# Altium schematic symbol library IC CPU.SchLib: 10 symbols
Pins are listed as number, name and electrical type; pins without a type are passive.

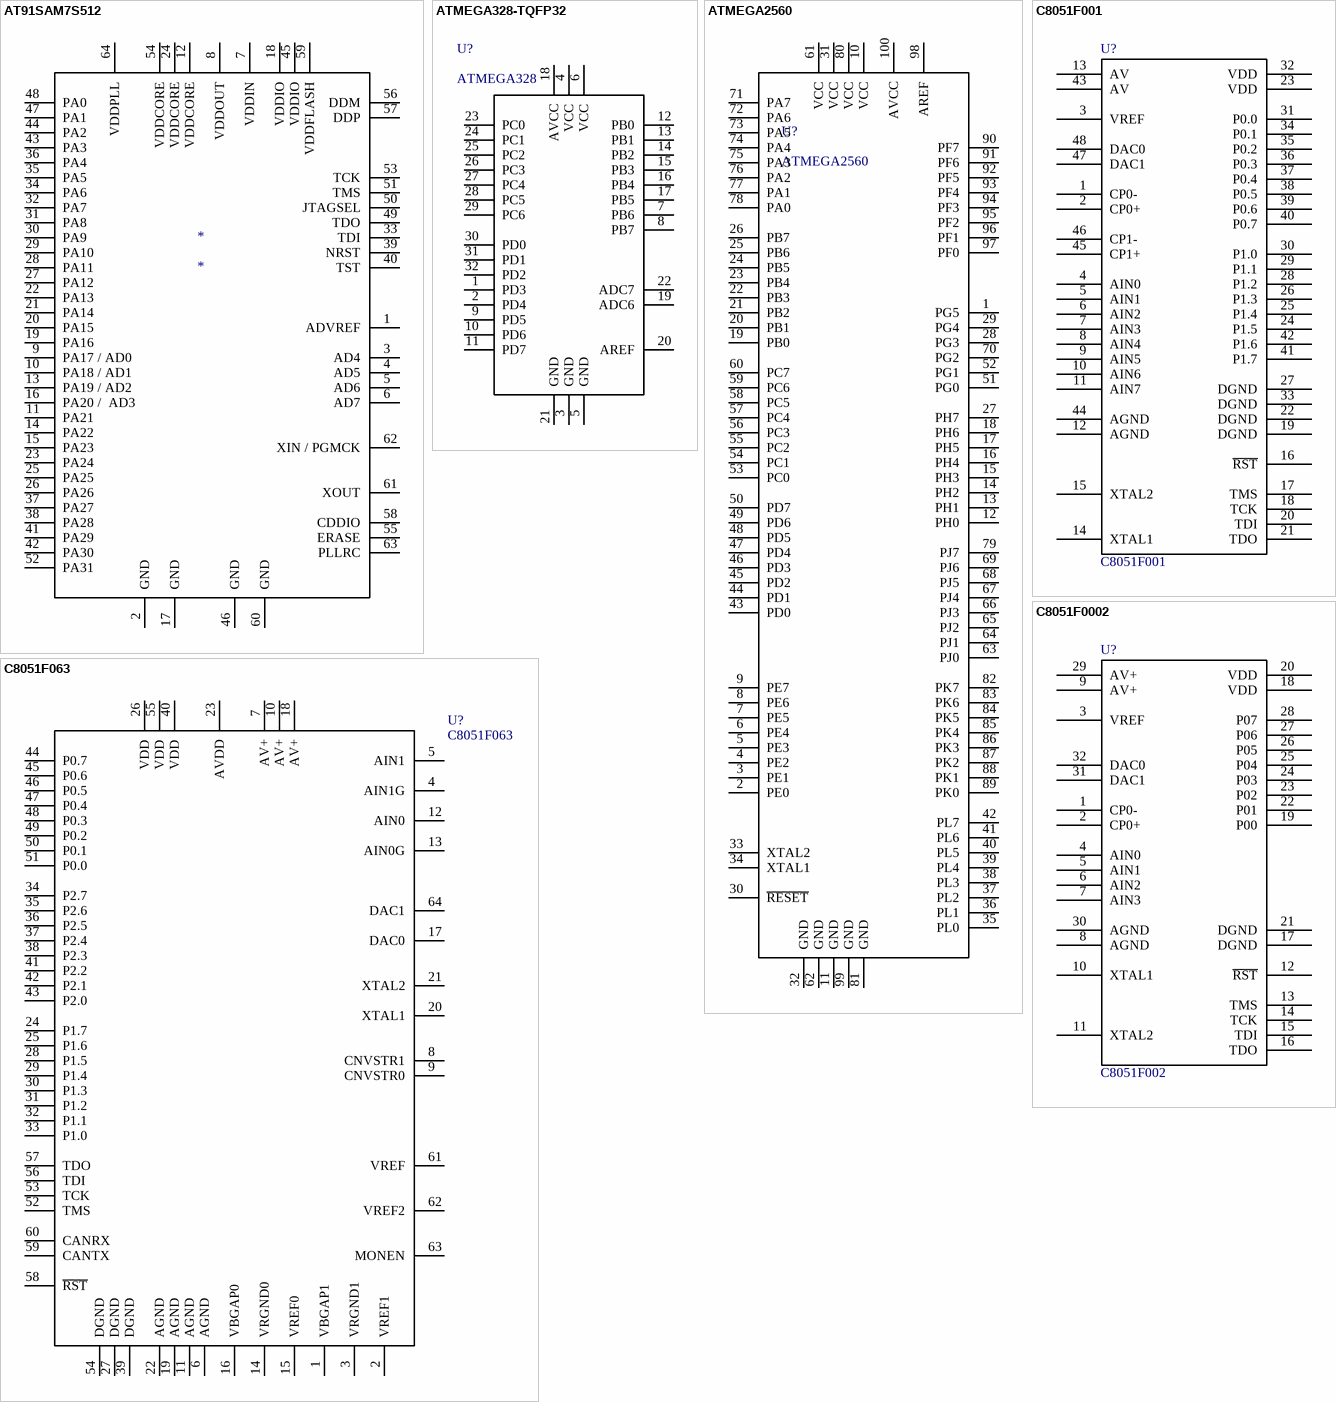
[diagram p0: symbols AT91SAM7S512 to C8051F063]

## AT91SAM7S512
designator *
footprint tqfp64
pins: 1 ADVREF, 2 GND, 3 AD4, 4 AD5, 5 AD6, 6 AD7, 7 VDDIN, 8 VDDOUT, 9 PA17 / AD0, 10 PA18 / AD1, 11 PA21, 12 VDDCORE, 13 PA19 / AD2, 14 PA22, 15 PA23, 16 PA20 /  AD3, 17 GND, 18 VDDIO, 19 PA16, 20 PA15, 21 PA14, 22 PA13, 23 PA24, 24 VDDCORE, 25 PA25, 26 PA26, 27 PA12, 28 PA11, 29 PA10, 30 PA9, 31 PA8, 32 PA7, 33 TDI, 34 PA6, 35 PA5, 36 PA4, 37 PA27, 38 PA28, 39 NRST, 40 TST, 41 PA29, 42 PA30, 43 PA3, 44 PA2, 45 VDDIO, 46 GND, 47 PA1, 48 PA0, 49 TDO, 50 JTAGSEL, 51 TMS, 52 PA31, 53 TCK, 54 VDDCORE, 55 ERASE, 56 DDM, 57 DDP, 58 CDDIO, 59 VDDFLASH, 60 GND, 61 XOUT, 62 XIN / PGMCK, 63 PLLRC, 64 VDDPLL

## ATMEGA328-TQFP32
designator U?, comment ATMEGA328
ATMEGA328 - TQFP; Supplier 1: Digi-Key; Supplier Part Number 1: ATMEGA328-AU-ND
footprint QFP32
pins: 1 PD3, 2 PD4, 3 GND, 4 VCC, 5 GND, 6 VCC, 7 PB6, 8 PB7, 9 PD5, 10 PD6, 11 PD7, 12 PB0, 13 PB1, 14 PB2, 15 PB3, 16 PB4, 17 PB5, 18 AVCC, 19 ADC6, 20 AREF, 21 GND, 22 ADC7, 23 PC0, 24 PC1, 25 PC2, 26 PC3, 27 PC4, 28 PC5, 29 PC6, 30 PD0, 31 PD1, 32 PD2

## ATMEGA2560
designator U?
ATMEL ATMEGA CPU; Supplier 1: Digi-Key; Supplier Part Number 1: ATMEGA2560-16AUR-ND
pins: 1 PG5, 2 PE0, 3 PE1, 4 PE2, 5 PE3, 6 PE4, 7 PE5, 8 PE6, 9 PE7, 10 VCC, 11 GND, 12 PH0, 13 PH1, 14 PH2, 15 PH3, 16 PH4, 17 PH5, 18 PH6, 19 PB0, 20 PB1, 21 PB2, 22 PB3, 23 PB4, 24 PB5, 25 PB6, 26 PB7, 27 PH7, 28 PG3, 29 PG4, 30 ~{RESET}, 31 VCC, 32 GND, 33 XTAL2, 34 XTAL1, 35 PL0, 36 PL1, 37 PL2, 38 PL3, 39 PL4, 40 PL5, 41 PL6, 42 PL7, 43 PD0, 44 PD1, 45 PD2, 46 PD3, 47 PD4, 48 PD5, 49 PD6, 50 PD7, 51 PG0, 52 PG1, 53 PC0, 54 PC1, 55 PC2, 56 PC3, 57 PC4, 58 PC5, 59 PC6, 60 PC7, 61 VCC, 62 GND, 63 PJ0, 64 PJ1, 65 PJ2, 66 PJ3, 67 PJ4, 68 PJ5, 69 PJ6, 70 PG2, 71 PA7, 72 PA6, 73 PA5, 74 PA4, 75 PA3, 76 PA2, 77 PA1, 78 PA0, 79 PJ7, 80 VCC, 81 GND, 82 PK7, 83 PK6, 84 PK5, 85 PK4, 86 PK3, 87 PK2, 88 PK1, 89 PK0, 90 PF7, 91 PF6, 92 PF5, 93 PF4, 94 PF3, 95 PF2, 96 PF1, 97 PF0, 98 AREF, 99 GND, 100 AVCC

## C8051F001
designator U?
8051 BASED MICROCONTROLLER; Manufacturer: Silicon Laboratories  Inc; Manufacturer Part Number: C8051F001-GQR; Connectivity: SMBus (2-Wire/I²C), SPI, UART/USART; Core Size: 8-Bit; Program Memory Size: 32KB (32K x 8); Oscillator Type: Internal; Peripherals: Brown-out Detect/Reset, POR, PWM, Temp Sensor, WDT; Data Converters: A/D 8x12b; D/A 2x12b; Program Memory Type: FLASH; Number of I /O: 16; RAM Size: 256 x 8; Description: IC 8051 MCU 32K FLASH 48TQFP; Voltage - Supply (Vcc/Vdd): 2.7 V ~ 3.6 V; Core Processor: 8051; Speed: 25MHz; Supplier 1: Digi-Key; Supplier Part Number 1: C8051F001-GQR-ND; Packaging: Tape & Reel (TR); Operating Temperature: -40°C ~ 85°C; Supplier Part Number: C8051F001-GQR-ND; Package / Case: 48-TQFP, 48-VQFP; RoHS: RoHS Compliant; Supplier: Digi-Key; Category: Integrated Circuits (ICs); EEPROM Size: -
footprint tqfp48
pins: 1 CP0-, 2 CP0+, 3 VREF, 4 AIN0, 5 AIN1, 6 AIN2, 7 AIN3, 8 AIN4, 9 AIN5, 10 AIN6, 11 AIN7, 12 AGND, 13 AV, 14 XTAL1, 15 XTAL2, 16 ~{RST}, 17 TMS, 18 TCK, 19 DGND, 20 TDI, 21 TDO, 22 DGND, 23 VDD, 24 P1.5, 25 P1.4, 26 P1.3, 27 DGND, 28 P1.2, 29 P1.1, 30 P1.0, 31 P0.0, 32 VDD, 33 DGND, 34 P0.1, 35 P0.2, 36 P0.3, 37 P0.4, 38 P0.5, 39 P0.6, 40 P0.7, 41 P1.7, 42 P1.6, 43 AV, 44 AGND, 45 CP1+, 46 CP1-, 47 DAC1, 48 DAC0

## C8051F0002
designator U?, comment C8051F002
8051 BASED MICROCONTROLLER; Manufacturer Part Number: C8051F002-GQR; Manufacturer: Silicon Laboratories  Inc; Core Processor: 8051; Program Memory Size: 32KB (32K x 8); Data Converters: A/D 4x12b; D/A 2x12b; Voltage - Supply (Vcc/Vdd): 2.7 V ~ 3.6 V; Oscillator Type: Internal; Number of I /O: 8; Speed: 25MHz; Connectivity: SMBus (2-Wire/I²C), SPI, UART/USART; Description: IC 8051 MCU 32K FLASH 32LQFP; Peripherals: Brown-out Detect/Reset, POR, PWM, Temp Sensor, WDT; Program Memory Type: FLASH; Core Size: 8-Bit; RAM Size: 256 x 8; Supplier 1: Digi-Key; Supplier Part Number 1: C8051F002-GQR-ND; RoHS: RoHS Compliant; Packaging: Tape & Reel (TR); Category: Integrated Circuits (ICs); Package / Case: 32-LQFP; EEPROM Size: -; Supplier: Digi-Key; Supplier Part Number: C8051F002-GQR-ND; Operating Temperature: -40°C ~ 85°C
footprint qfp32
pins: 1 CP0-, 2 CP0+, 3 VREF, 4 AIN0, 5 AIN1, 6 AIN2, 7 AIN3, 8 AGND, 9 AV+, 10 XTAL1, 11 XTAL2, 12 ~{RST}, 13 TMS, 14 TCK, 15 TDI, 16 TDO, 17 DGND, 18 VDD, 19 P00, 20 VDD, 21 DGND, 22 P01, 23 P02, 24 P03, 25 P04, 26 P05, 27 P06, 28 P07, 29 AV+, 30 AGND, 31 DAC1, 32 DAC0

## C8051F063
designator U?
8051 BASED MICROCONTROLLER; Manufacturer: Silicon Laboratories  Inc; Manufacturer Part Number: C8051F063R; Data Converters: A/D 2x16b, 8x10b; D/A 2x12b; Program Memory Size: 64KB (64K x 8); Voltage - Supply (Vcc/Vdd): 2.7 V ~ 3.6 V; Speed: 25MHz; Core Size: 8-Bit; Oscillator Type: Internal; RAM Size: 4.25K x 8; Number of I /O: 24; Peripherals: Brown-out Detect/Reset, POR, PWM, Temp Sensor, WDT; Program Memory Type: FLASH; Connectivity: CAN, SMBus (2-Wire/I&sup2:C), SPI, UART/USART; Description: IC 8051 MCU 64K FLASH 64TQFP; Core Processor: 8051; Supplier 1: Digi-Key; Supplier Part Number 1: 336-1075-2-ND; Packaging: Tape & Reel (TR); EEPROM Size: -; Supplier: Digi-Key; Operating Temperature: -40°C ~ 85°C; Package / Case: 64-TQFP, 64-VQFP; RoHS: RoHS non-compliant; Supplier Part Number: 336-1075-2-ND; Category: Integrated Circuits (ICs)
footprint TQFP64
pins: 1 VBGAP1, 2 VREF1, 3 VRGND1, 4 AIN1G, 5 AIN1, 6 AGND, 7 AV+, 8 CNVSTR1, 9 CNVSTR0, 10 AV+, 11 AGND, 12 AIN0, 13 AIN0G, 14 VRGND0, 15 VREF0, 16 VBGAP0, 17 DAC0, 18 AV+, 19 AGND, 20 XTAL1, 21 XTAL2, 22 AGND, 23 AVDD, 24 P1.7, 25 P1.6, 26 VDD, 27 DGND, 28 P1.5, 29 P1.4, 30 P1.3, 31 P1.2, 32 P1.1, 33 P1.0, 34 P2.7, 35 P2.6, 36 P2.5, 37 P2.4, 38 P2.3, 39 DGND, 40 VDD, 41 P2.2, 42 P2.1, 43 P2.0, 44 P0.7, 45 P0.6, 46 P0.5, 47 P0.4, 48 P0.3, 49 P0.2, 50 P0.1, 51 P0.0, 52 TMS, 53 TCK, 54 DGND, 55 VDD, 56 TDI, 57 TDO, 58 ~{RST}, 59 CANTX, 60 CANRX, 61 VREF, 62 VREF2, 63 MONEN, 64 DAC1

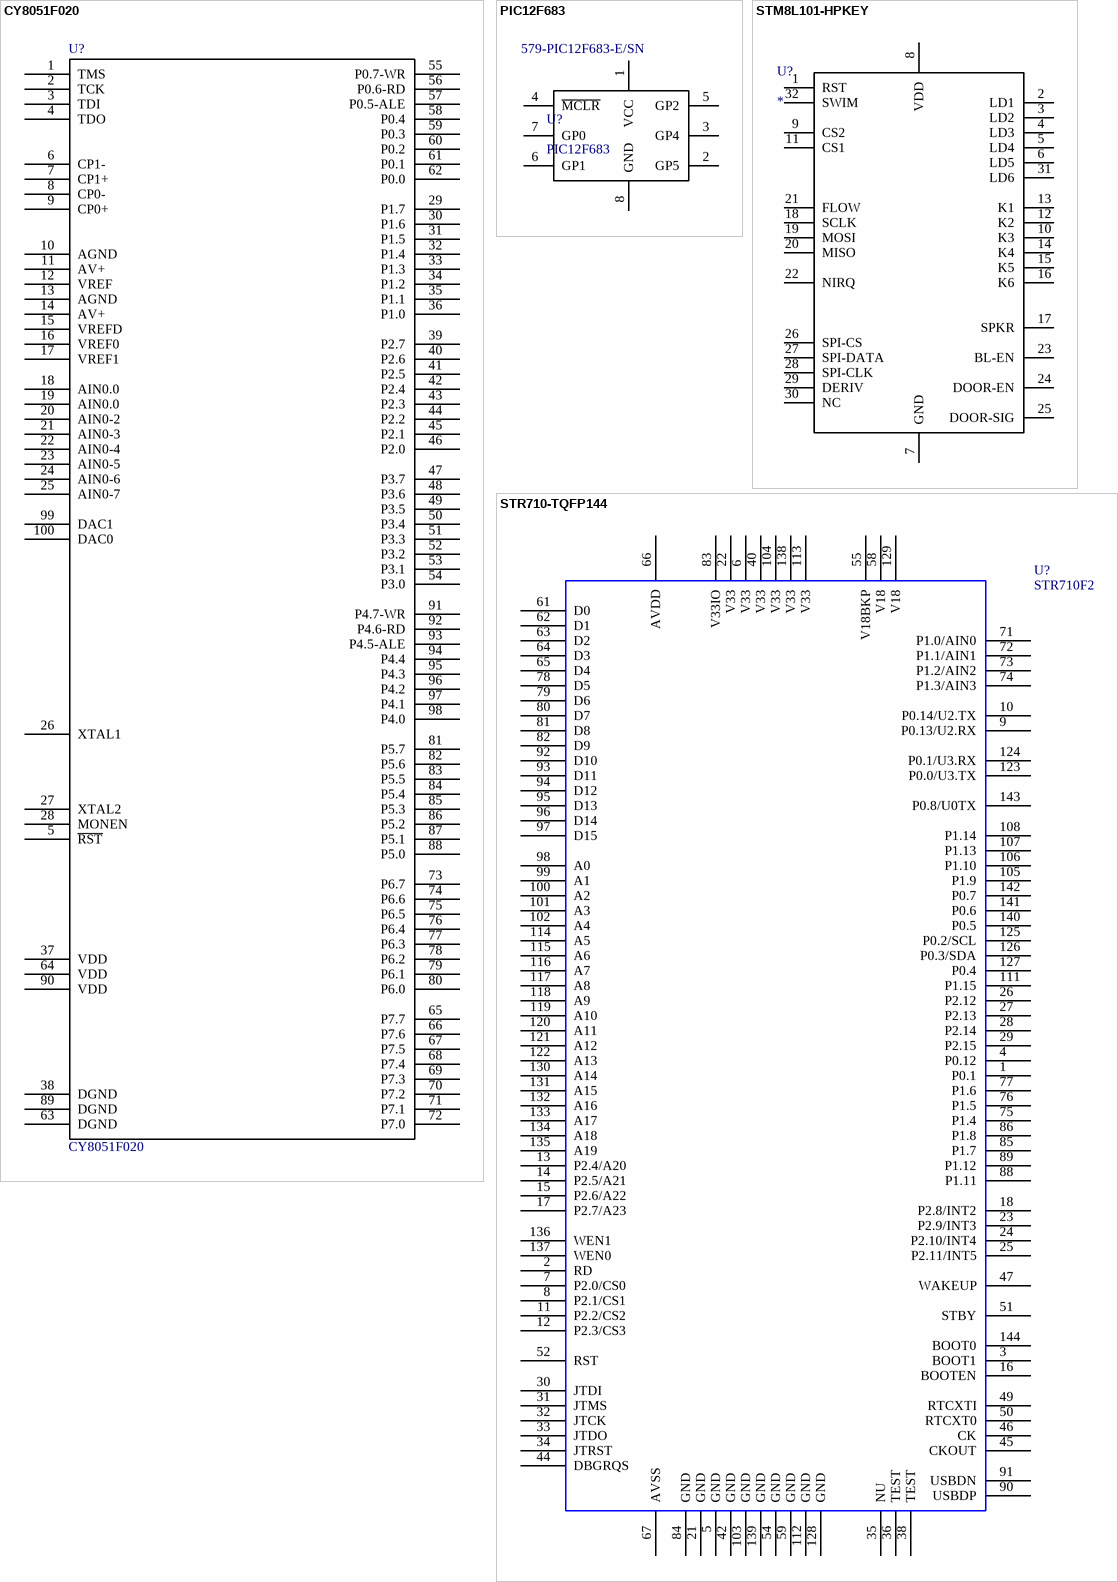
[diagram p1: symbols CY8051F020 to STR710-TQFP144]

## CY8051F020
designator U?
8051 BASED MICROCONTROLLER; Manufacturer: Silicon Laboratories  Inc; Manufacturer Part Number: C8051F020-GQ; Voltage - Supply (Vcc/Vdd): 2.7 V ~ 3.6 V; Data Converters: A/D 8x8b, 8x12b; D/A 2x12b; RAM Size: 4.25K x 8; Oscillator Type: Internal; Speed: 25MHz; Core Size: 8-Bit; Program Memory Type: FLASH; Core Processor: 8051; Description: IC 8051 MCU 64K FLASH 100TQFP; Connectivity: EBI/EMI, SMBus (2-Wire/I²C), SPI, UART/USART; Number of I /O: 64; Peripherals: Brown-out Detect/Reset, POR, PWM, Temp Sensor, WDT; Program Memory Size: 64KB (64K x 8); Supplier 1: Digi-Key; Supplier Part Number 1: 336-1199-ND; Package / Case: 100-TQFP, 100-VQFP; Operating Temperature: -40°C ~ 85°C; Packaging: Tray; Category: Integrated Circuits (ICs); Supplier Part Number: 336-1199-ND; Supplier: Digi-Key; RoHS: RoHS Compliant; EEPROM Size: -
footprint TQFP100
pins: 1 TMS, 2 TCK, 3 TDI, 4 TDO, 5 ~{RST}, 6 CP1-, 7 CP1+, 8 CP0-, 9 CP0+, 10 AGND, 11 AV+, 12 VREF, 13 AGND, 14 AV+, 15 VREFD, 16 VREF0, 17 VREF1, 18 AIN0.0, 19 AIN0.0, 20 AIN0-2, 21 AIN0-3, 22 AIN0-4, 23 AIN0-5, 24 AIN0-6, 25 AIN0-7, 26 XTAL1, 27 XTAL2, 28 MONEN, 29 P1.7, 30 P1.6, 31 P1.5, 32 P1.4, 33 P1.3, 34 P1.2, 35 P1.1, 36 P1.0, 37 VDD, 38 DGND, 39 P2.7, 40 P2.6, 41 P2.5, 42 P2.4, 43 P2.3, 44 P2.2, 45 P2.1, 46 P2.0, 47 P3.7, 48 P3.6, 49 P3.5, 50 P3.4, 51 P3.3, 52 P3.2, 53 P3.1, 54 P3.0, 55 P0.7-WR, 56 P0.6-RD, 57 P0.5-ALE, 58 P0.4, 59 P0.3, 60 P0.2, 61 P0.1, 62 P0.0, 63 DGND, 64 VDD, 65 P7.7, 66 P7.6, 67 P7.5, 68 P7.4, 69 P7.3, 70 P7.2, 71 P7.1, 72 P7.0, 73 P6.7, 74 P6.6, 75 P6.5, 76 P6.4, 77 P6.3, 78 P6.2, 79 P6.1, 80 P6.0, 81 P5.7, 82 P5.6, 83 P5.5, 84 P5.4, 85 P5.3, 86 P5.2, 87 P5.1, 88 P5.0, 89 DGND, 90 VDD, 91 P4.7-WR, 92 P4.6-RD, 93 P4.5-ALE, 94 P4.4, 95 P4.3, 96 P4.2, 97 P4.1, 98 P4.0, 99 DAC1, 100 DAC0

## PIC12F683
designator U?  Supplier Part Number 1: 579-PIC12F683-E/SN
Supplier 1: Mouser
footprint SO8
pins: 1 VCC, 2 GP5, 3 GP4, 4 ~{MCLR}, 5 GP2, 6 GP1, 7 GP0, 8 GND

## STM8L101-HPKEY
designator U?
footprint QFP32
pins: 1 RST, 2 LD1, 3 LD2, 4 LD3, 5 LD4, 6 LD5, 7 GND, 8 VDD, 9 CS2, 10 K3, 11 CS1, 12 K2, 13 K1, 14 K4, 15 K5, 16 K6, 17 SPKR, 18 SCLK, 19 MOSI, 20 MISO, 21 FLOW, 22 NIRQ, 23 BL-EN, 24 DOOR-EN, 25 DOOR-SIG, 26 SPI-CS, 27 SPI-DATA, 28 SPI-CLK, 29 DERIV, 30 NC, 31 LD6, 32 SWIM

## STR710-TQFP144
designator U?, comment STR710F2
ARM7 BASED MICROCONTROLLER; Manufacturer: STMicroelectronics; Manufacturer Part Number: STR710FZ1T6; Number of I /O: 48; Peripherals: PWM, WDT; Oscillator Type: Internal; Program Memory Type: FLASH; Description: IC MCU ARM7 TDMI 128K 144TQFP; Speed: 66MHz; Core Size: 32-Bit; Connectivity: CAN, EBI/EMI, HDLC, I²C, SmartCard, SPI, UART/USART, USB; Voltage - Supply (Vcc/Vdd): 3 V ~ 3.6 V; RAM Size: 32K x 8; Program Memory Size: 128KB (128K x 8 + 16K); Data Converters: A/D 4x12b; Supplier 1: Digi-Key; Supplier Part Number 1: 497-4510-ND; Packaging: Tray; Category: Integrated Circuits (ICs); Operating Temperature: -40°C ~ 85°C; Supplier: Digi-Key; RoHS: RoHS Compliant; Core Processor: ARM7; Package / Case: 144-TQFP, 144-VQFP; Supplier Part Number: 497-4510-ND; EEPROM Size: -
footprint TQFP144
pins: 1 P0.1, 2 RD, 3 BOOT1, 4 P0.12, 5 GND, 6 V33, 7 P2.0/CS0, 8 P2.1/CS1, 9 P0.13/U2.RX, 10 P0.14/U2.TX, 11 P2.2/CS2, 12 P2.3/CS3, 13 P2.4/A20, 14 P2.5/A21, 15 P2.6/A22, 16 BOOTEN, 17 P2.7/A23, 18 P2.8/INT2, 21 GND, 22 V33, 23 P2.9/INT3, 24 P2.10/INT4, 25 P2.11/INT5, 26 P2.12, 27 P2.13, 28 P2.14, 29 P2.15, 30 JTDI, 31 JTMS, 32 JTCK, 33 JTDO, 34 JTRST, 35 NU, 36 TEST, 38 TEST, 40 V33, 42 GND, 44 DBGRQS, 45 CKOUT, 46 CK, 47 WAKEUP, 49 RTCXTI, 50 RTCXT0, 51 STBY, 52 RST, 54 GND, 55 V18BKP, 58 V18, 59 GND, 61 D0, 62 D1, 63 D2, 64 D3, 65 D4, 66 AVDD, 67 AVSS, 71 P1.0/AIN0, 72 P1.1/AIN1, 73 P1.2/AIN2, 74 P1.3/AIN3, 75 P1.4, 76 P1.5, 77 P1.6, 78 D5, 79 D6, 80 D7, 81 D8, 82 D9, 83 V33IO, 84 GND, 85 P1.7, 86 P1.8, 88 P1.11, 89 P1.12, 90 USBDP, 91 USBDN, 92 D10, 93 D11, 94 D12, 95 D13, 96 D14, 97 D15, 98 A0, 99 A1, 100 A2, 101 A3, 102 A4, 103 GND, 104 V33, 105 P1.9, 106 P1.10, 107 P1.13, 108 P1.14, 111 P1.15, 112 GND, 113 V33, 114 A5, 115 A6, 116 A7, 117 A8, 118 A9, 119 A10, 120 A11, 121 A12, 122 A13, 123 P0.0/U3.TX, 124 P0.1/U3.RX, 125 P0.2/SCL, 126 P0.3/SDA, 127 P0.4, 128 GND, 129 V18, 130 A14, 131 A15, 132 A16, 133 A17, 134 A18, 135 A19, 136 WEN1, 137 WEN0, 138 V33, 139 GND, 140 P0.5, 141 P0.6, 142 P0.7, 143 P0.8/U0TX, 144 BOOT0